# Altium footprint library TACT SWITCH.PcbLib: 2 footprints
Each footprint in its own frame and in the unit in brackets; x right, y up, seen from the top. Pads: shape width x height; smd on the part's side, far side on the other; paste and mask are expansions set on the pad; w line width, h text height; cw(c..) or ccw(c..) is an arc to the next point about the centre after c.
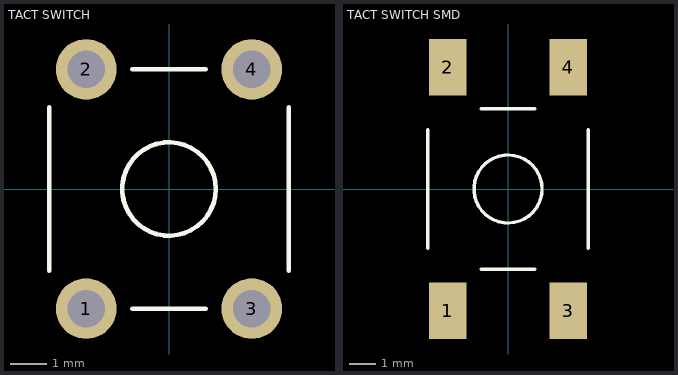
[diagram p0: the footprints below, top view; thin cyan lines are the x and y axes]

## TACT SWITCH [mil]
pads (4):
  round 65 hole 40: 1(-88.58,-127.95) 2(-88.58,127.95) 3(88.58,-127.95) 4(88.58,127.95)
Top Overlay:
  circle w5: c0,0 r50
  lines w5: -128.11,-87.48 -128.11,87.52 ; -39.37,-128.11 39.37,-128.11 ; -39.37,128.11 39.37,128.11 ; 128.11,-87.52 128.11,87.48
3D body: height 275.59, standoff -137.8, extent -120,-155.51 124.09,155.51

## TACT SWITCH SMD [mm]
pads (4):
  rect 1.4x2.1 smd: 1(-2.25,-4.55) 2(-2.25,4.55) 3(2.25,-4.55) 4(2.25,4.55)
Top Overlay:
  circle w0.127: c0,0 r1.27
  lines w0.127: -3,-2.222 -3,2.223 ; -1,-3 1,-3 ; -1,3 1,3 ; 3,-2.223 3,2.222
3D body: height 5.07, standoff 0.1, extent -3,-5 3,5